# EAGLE library part WE-BPF_T2 (library Wurth_Elektronik_Passive_rev16b)
Multilayer Chip Band-Pass Filter Characteristics Multilayer Chip Band-Pass Filter with low insertion loss and high attenuation SMD component in the sizes 0805 and 1008 Guaranteed filter characteristics over a wide temperature range Applications RF applications Wireless communication systems like DECT, PACS, PHS, GSM, WLAN, Bluetooth … <http://katalog.we-online.de/media/images/eisos/RfBPF_pf2.jpg> Details see: http://katalog.we-online.de/en/pbs/WE-BPF Updated by Dan Xu 2014-06-19 2014 (C) Wurth Elektronik
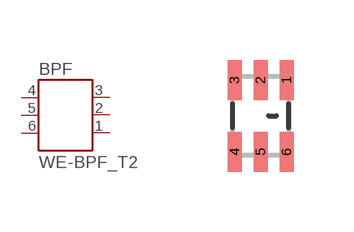
[diagram p2: symbol with the pads of WE-BPF_0805_T2; footprint WE-BPF_0805_T2]

Designator prefix BPF

## WE-BPF_T2_0805  [WE-BPF_0805_T2]
1  GND  pas
2  GND  pas
3  I/O  pas
4  GND  pas
5  GND  pas
6  I/O  pas

## Footprint WE-BPF_0805_T2 (pad centres in mm)
Multilayer Chip Band -Pass Filter WE-BPF
smd 0.35 x 1: 1 0.65,0.9; 2 0,0.9; 3 -0.65,0.9; 4 -0.65,-0.9; 5 0,-0.9; 6 0.65,-0.9